# Altium footprint library ESP32-WROOM-32UE-N16.PcbLib: 1 footprints
Each footprint in its own frame and in the unit in brackets; x right, y up, seen from the top. Pads: shape width x height; smd on the part's side, far side on the other; paste and mask are expansions set on the pad; w line width, h text height; cw(c..) or ccw(c..) is an arc to the next point about the centre after c.
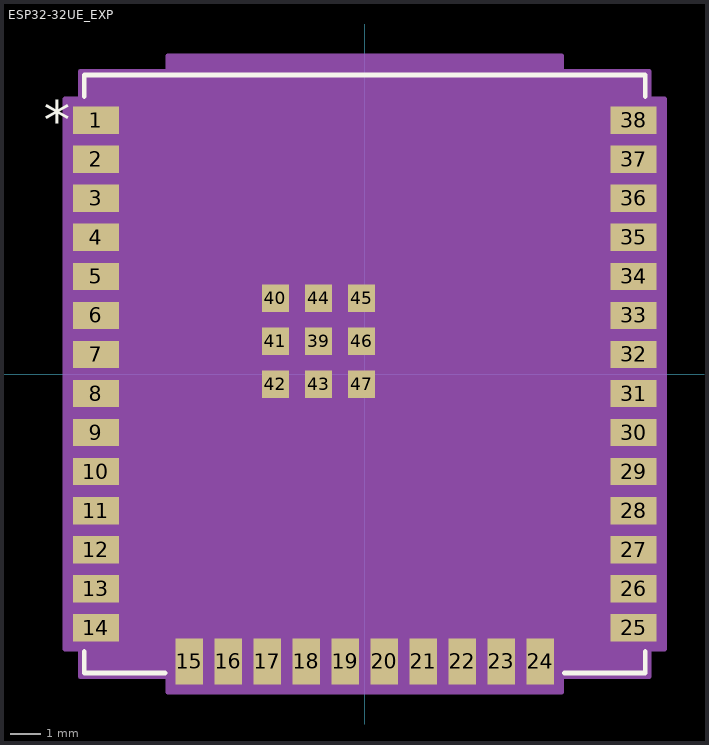
[diagram p0: the footprint, top view; thin cyan lines are the x and y axes]

## ESP32-32UE_EXP [mil]
pads (47):
  rect 59x35 smd paste+0 mask+0: 1(-344.49,325) 2(-344.49,275) 3(-344.49,225) 4(-344.49,175) 5(-344.49,125) 6(-344.49,75) 7(-344.49,25) 8(-344.49,-25) 9(-344.49,-75) 10(-344.49,-125) 11(-344.49,-175) 12(-344.49,-225) 13(-344.49,-275) 14(-344.49,-325) 25(344.49,-325) 26(344.49,-275) 27(344.49,-225) 28(344.49,-175) 29(344.49,-125) 30(344.49,-75) 31(344.49,-25) 32(344.49,25) 33(344.49,75) 34(344.49,125) 35(344.49,175) 36(344.49,225) 37(344.49,275) 38(344.49,325)
  rect 35x59 smd paste+0 mask+0: 15(-225,-368.11) 16(-175,-368.11) 17(-125,-368.11) 18(-75,-368.11) 19(-25,-368.11) 20(25,-368.11) 21(75,-368.11) 22(125,-368.11) 23(175,-368.11) 24(225,-368.11)
  rect 35x35 smd paste-17.5 mask-17.5: 39(-59.22,42.08) 40(-114.34,97.2) 41(-114.34,42.08) 42(-114.34,-13.04) 43(-59.22,-13.04) 44(-59.22,97.2) 45(-4.11,97.2) 46(-4.11,42.08) 47(-4.11,-13.04)
Top Overlay:
  lines w6: -359.5,-355.6 -359.5,-383 -255.6,-383 ; -359.5,355.6 -359.5,383 359.5,383 359.5,355.6 ; 255.6,-383 359.5,-383 359.5,-355.6
  text "*" at -411.49,300 h50
Mechanical 13:
  lines w1: -354.5,328 -304.5,378 ; -354.5,-378 -354.5,378 354.5,378 354.5,-378 -354.5,-378
  text "*" at -302.49,300 h50
Mechanical 15:
  region: -252.5,-388 -364.5,-388 -364.5,-352.5 -383.99,-352.5 -383.99,352.5 -364.5,352.5 -364.5,388 -252.5,388 -252.5,407.61 252.5,407.61 252.5,388 364.5,388 364.5,352.5 383.99,352.5 383.99,-352.5 364.5,-352.5 364.5,-388 252.5,-388 252.5,-407.61 -252.5,-407.61
  lines w6: -383.99,-352.5 -383.99,352.5 -364.5,352.5 -364.5,388 -252.5,388 -252.5,407.61 252.5,407.61 252.5,388 364.5,388 364.5,352.5 383.99,352.5 383.99,-352.5 364.5,-352.5 364.5,-388 252.5,-388 252.5,-407.61 -252.5,-407.61 -252.5,-388 -364.5,-388 -364.5,-352.5 -383.99,-352.5
3D body "ESP32-WROOM-32UE-N16--3DModel-STEP-269445.STEP": height 131.89, standoff 0, extent -358.66,-382.95 350,372.95